# Altium footprint library CAP_CAN_TH_2mmLS5mmD.PcbLib: 1 footprints
Each footprint in its own frame and in the unit in brackets; x right, y up, seen from the top. Pads: shape width x height; smd on the part's side, far side on the other; paste and mask are expansions set on the pad; w line width, h text height; cw(c..) or ccw(c..) is an arc to the next point about the centre after c.
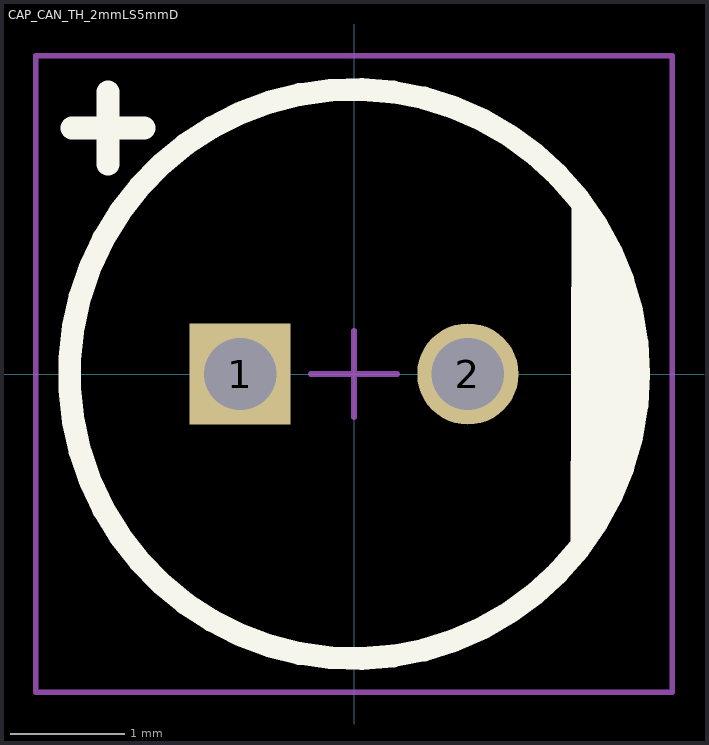
[diagram p0: the footprint, top view; thin cyan lines are the x and y axes]

## CAP_CAN_TH_2mmLS5mmD [mil]
pads (2):
  rect 35x35 hole 25: 1(-39.37,0)
  round 35 hole 25: 2(39.37,0)
Top Overlay:
  circle w7.87: c0,0 r98.43
  region: 75.27,60.27 85.27,48.1 92.69,34.2 97.27,19.13 98.81,3.45 98.43,3.45 98.81,-3.45 97.27,-19.13 92.69,-34.2 85.27,-48.1 75.27,-60.27 75,-60
  lines w7.87: -97.5,85 -72.5,85 ; -85,72.5 -85,97.5
Mechanical 15:
  lines w1.97: -15,0 15,0 ; 0,-15 0,15 ; -110,-110 -110,110 110,110 110,-110 -110,-110